# Altium integrated library Test_Library.IntLib: 2 symbols
Pins are listed as number, name and electrical type; pins without a type are passive.

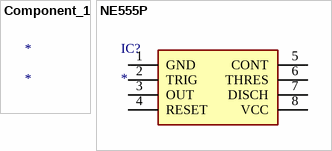
[diagram p0: symbols Component_1 to NE555P]

## Component_1
designator *

## NE555P
designator IC?
Integrated Circuit; Manufacturer_Name: Texas Instruments; Manufacturer_Part_Number: NE555P; Description: Precision timer,NE555P 0.5MHz DIL8 Texas Instruments NE555P; Datasheet Link: http://www.ti.com/lit/ds/symlink/ne555.pdf; Height: 5.08mm; Mouser Part Number: 595-NE555P; Mouser Price/Stock: https://www.mouser.co.uk/ProductDetail/Texas-Instruments/NE555P?qs=rkhjVJ6%2F3EIf4CWgjIKuKQ%3D%3D; Arrow Part Number: NE555P; Arrow Price/Stock: https://www.arrow.com/en/products/ne555p/texas-instruments?utm_currency=USD&region=europe
footprint DIP794W53P254L959H508Q8N
pins: 1 GND, 2 TRIG, 3 OUT, 4 RESET, 5 CONT, 6 THRES, 7 DISCH, 8 VCC